# EAGLE library part 750815040 (library wurth_electronics_midcom_inc_v2-1)
Package Style: EE20/9/11 Mounting: THT Pins: 14 pins Bobbin: 070-5443 Best pinouts for production vary per application. Please contact Wurth Electronics Midcom, Inc. for assistance with your custom design. Website: Wurth Electronics Midcom <http://www.we-online.com/midcom> Contact us Wurth Electronics Midcom, Inc. 121 Airport Dr. Watertown, SD 57201 Phone: (605) 886-4385 Fax: (605) 886-4486 E-Mail: midcom@we-online.com
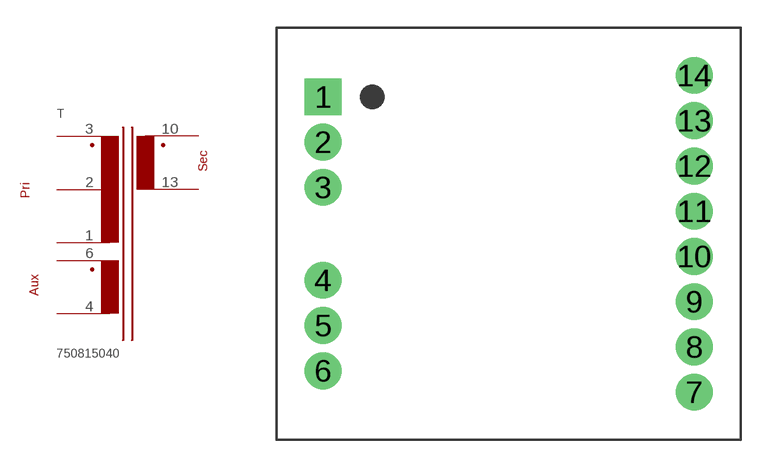
[diagram p377: symbol with the pads of EE20/9/11_THT_H_14PIN_(5443); footprint EE20/9/11_THT_H_14PIN_(5443)]

Designator prefix T

## 750815040  [EE20/9/11_THT_H_14PIN_(5443)]
1  1  pas
2  2  pas
3  3  pas
4  4  pas
6  6  pas
10  10  pas
13  13  pas

## Footprint EE20/9/11_THT_H_14PIN_(5443) (pad centres in mm)
Package Style: EE20/9/11 Mounting: THT Pins: 14 Bobbin: 070-5443
drill 1.321 square: 1 -9.995,7.379
drill 1.321: 2 -9.995,4.94; 3 -9.995,2.502; 4 -9.995,-2.502; 5 -9.995,-4.94; 6 -9.995,-7.379; 7 9.995,-8.534; 8 9.995,-6.096; 9 9.995,-3.658; 10 9.995,-1.219; 11 9.995,1.219; 12 9.995,3.658; 13 9.995,6.096; 14 9.995,8.534